# Altium schematic symbol library DIA_2_COMMON_CATHODE.SchLib: 1 symbol
Pins are listed as number, name and electrical type; pins without a type are passive.

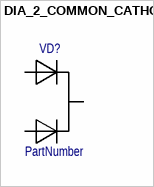
[diagram p0: symbol DIA_2_COMMON_CATHODE]

## DIA_2_COMMON_CATHODE
designator VD?  (value not drawn)
Диодная сборка из двух диодов с общим катодом; PartNumber: PartNumber
pins: 1, 2, 3